# Altium integrated library Termistors.IntLib: 1 symbol
Pins are listed as number, name and electrical type; pins without a type are passive.

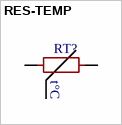
[diagram p0: symbol RES-TEMP]

## RES-TEMP
designator RT?
footprint RES-V5
footprint 20D-9
footprint 47D-15
footprint 1.3D-20
footprint 10D-15
pins: 1, 2
text: t°C